# EAGLE library part D2523T (library SparkFun)
D2523T GPS Module
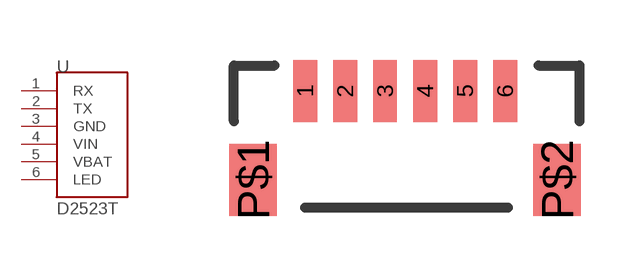
[diagram p297: symbol with the pads of EM406; footprint EM406]

Designator prefix U

## D2523T_  [EM406]
1  RX
2  TX
3  GND
4  VIN
5  VBAT
6  LED

## Footprint EM406 (pad centres in mm)
smd 0.6 x 1.55: 1 0,0; 2 1,0; 3 2,0; 4 3,0; 5 4,0; 6 5,0
smd 1.2 x 1.8: P$1 -1.3,-2.225; P$2 6.3,-2.225